# EAGLE library part TDA7376B (library mouser)
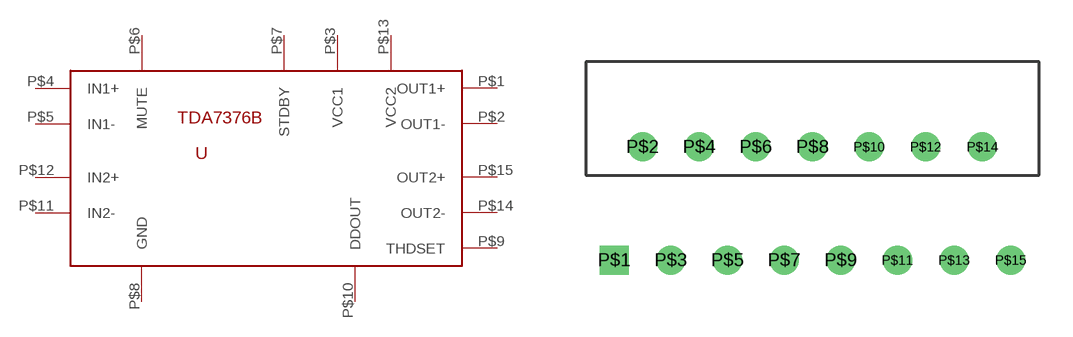
[diagram p1: symbol with the pads of TDA7376B_DIM; footprint TDA7376B_DIM]

Designator prefix -

## TDA7376B  [TDA7376B_DIM]
P$1  OUT1+
P$2  OUT1-
P$3  VCC1
P$4  IN1+
P$5  IN1-
P$6  MUTE
P$7  STDBY
P$8  GND
P$9  THDSET
P$10  DDOUT
P$11  IN2-
P$12  IN2+
P$13  VCC2
P$14  OUT2-
P$15  OUT2+

## Footprint TDA7376B_DIM (pad centres in mm)
drill 0.8 square: P$1 -6.35,-2.54
drill 0.8: P$2 -5.08,2.54; P$3 -3.81,-2.54; P$4 -2.54,2.54; P$5 -1.27,-2.54; P$6 0,2.54; P$7 1.27,-2.54; P$8 2.54,2.54; P$9 3.81,-2.54; P$10 5.08,2.54; P$11 6.35,-2.54; P$12 7.62,2.54; P$13 8.89,-2.54; P$14 10.16,2.54; P$15 11.43,-2.54